# EAGLE library part CON-COMPACT-FLASH (library zz-m-pad-2.1)
Various Compact Flash Card Connectors from AVX and Hirose
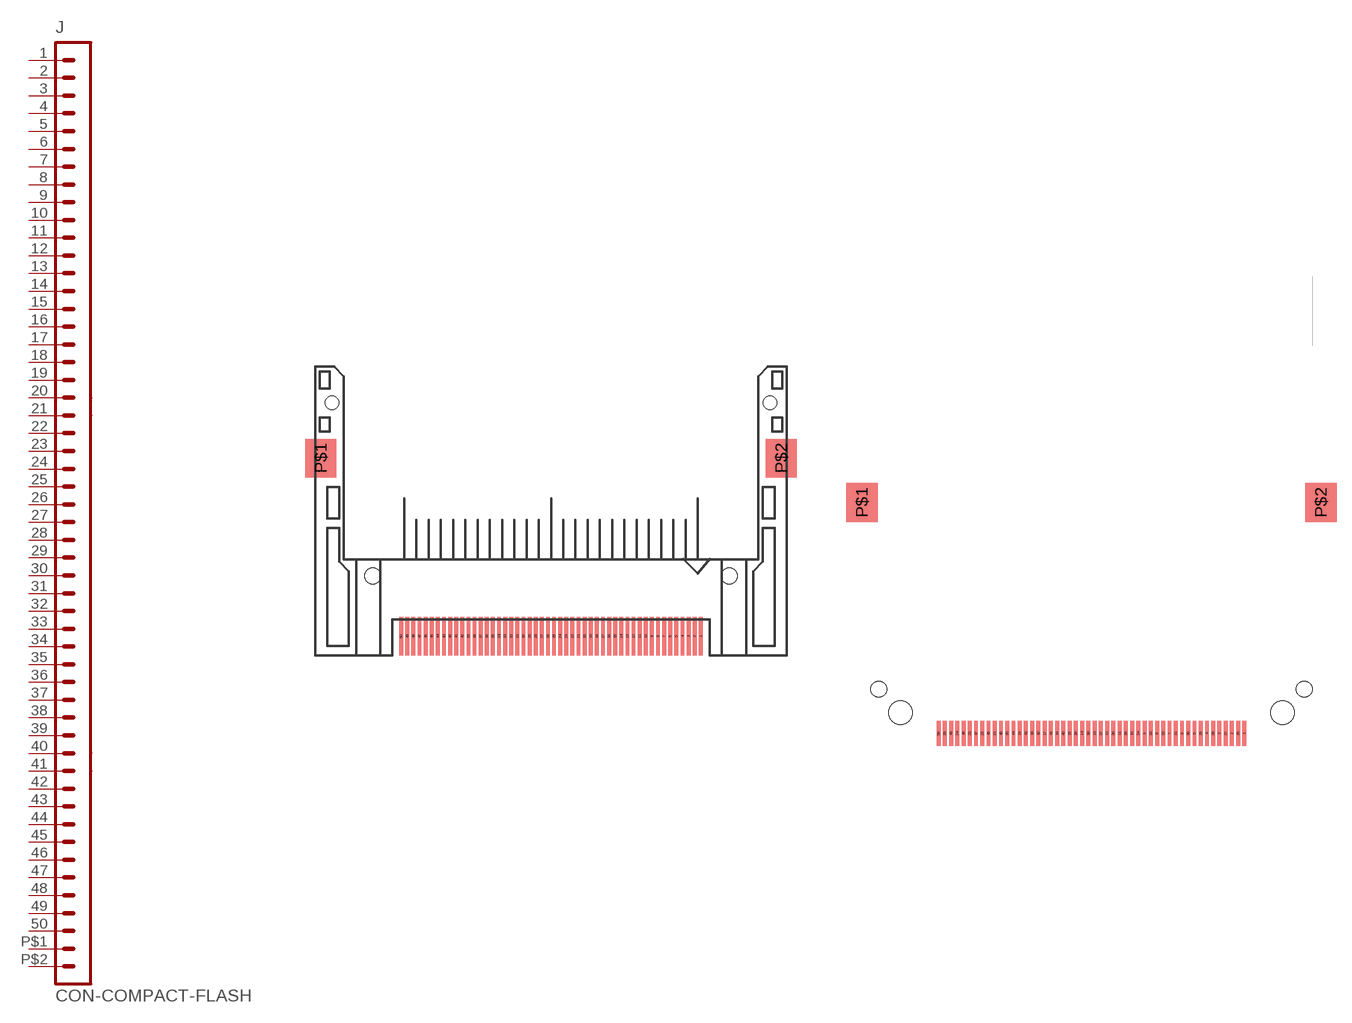
[diagram p115: symbol with the pads of MI20-50PD-SF-1; footprints MI20-50PD-SF-1, MI20-50PD-SF-EJL]

Designator prefix J

## CON-COMPACT-FLASH-1  [MI20-50PD-SF-1]
1  1  pas
2  2  pas
3  3  pas
4  4  pas
5  5  pas
6  6  pas
7  7  pas
8  8  pas
9  9  pas
10  10  pas
11  11  pas
12  12  pas
13  13  pas
14  14  pas
15  15  pas
16  16  pas
17  17  pas
18  18  pas
19  19  pas
20  20  pas
21  21  pas
22  22  pas
23  23  pas
24  24  pas
25  25  pas
26  26  pas
27  27  pas
28  28  pas
29  29  pas
30  30  pas
31  31  pas
32  32  pas
33  33  pas
34  34  pas
35  35  pas
36  36  pas
37  37  pas
38  38  pas
39  39  pas
40  40  pas
41  41  pas
42  42  pas
43  43  pas
44  44  pas
45  45  pas
46  46  pas
47  47  pas
48  48  pas
49  49  pas
50  50  pas
P$1  51  pas
P$2  52  pas

## CON-COMPACT-FLASH-2  [MI20-50PD-SF-EJL]
Pads as for MI20-50PD-SF-1

## CON-COMPACT-FLASH-3  [MI20-50PD-SF-EJR]
Pads as for MI20-50PD-SF-1

## Footprint MI20-50PD-SF-1 (pad centres in mm)
Hirose's MI20-50PD-SF Compact Flash Card Connectors Features: Compact design occupies minimum space Connectors are designed with small width and depth for miniaturization and the foot print on the board has been made smaller. (See (a) to the right) Supplied with ground terminals The MI21 Series are furnished with ground terminals. Card ejection mechanism Two point ejection mechanism to assure even card ejection. Designed and packaged for board placement with automatic equipment Headers are designed with a pick up area to accommodate the pick-and -place nozzles of automatic mounting machines. (Patents pending) Receptacles are designed to be mounted on top the board, and automatic mounting is possibble on the specified board. Card ejection mechanism Available in several termination and mouting styles, with and without ejection mechanism, with and without standoffs. Rich variations A rich assortment of variations allows selection of a type to suit the specific card and the equipment to which it will be installed. (1)Suitable cards: Type I , type I/II . (2)Eject button: None, right , left (3)Standoff: 0 mm, 2.2 mm (4)Board mounting type: Standard , reverse Please send any comments to: messi@users.sourceforge.net
smd 0.4 x 4: 1 15.557,-18.495; 2 14.922,-18.495; 3 14.287,-18.495; 4 13.652,-18.495; 5 13.018,-18.495; 6 12.383,-18.495; 7 11.748,-18.495; 8 11.113,-18.495; 9 10.477,-18.495; 10 9.842,-18.495; 11 9.207,-18.495; 12 8.572,-18.495; 13 7.938,-18.495; 14 7.303,-18.495; 15 6.668,-18.495; 16 6.032,-18.495; 17 5.397,-18.495; 18 4.763,-18.495; 19 4.128,-18.495; 20 3.493,-18.495; 21 2.857,-18.495; 22 2.223,-18.495; 23 1.587,-18.495; 24 0.953,-18.495; 25 0.318,-18.495; 26 -0.318,-18.495; 27 -0.953,-18.495; 28 -1.587,-18.495; 29 -2.223,-18.495; 30 -2.857,-18.495; 31 -3.493,-18.495; 32 -4.128,-18.495; 33 -4.763,-18.495; 34 -5.397,-18.495; 35 -6.032,-18.495; 36 -6.668,-18.495; 37 -7.303,-18.495; 38 -7.938,-18.495; 39 -8.572,-18.495; 40 -9.207,-18.495; 41 -9.842,-18.495; 42 -10.477,-18.495; 43 -11.113,-18.495; 44 -11.748,-18.495; 45 -12.383,-18.495; 46 -13.018,-18.495; 47 -13.652,-18.495; 48 -14.287,-18.495; 49 -14.922,-18.495; 50 -15.557,-18.495
smd 3.2 x 4: P$1 -23.9,0; P$2 23.9,0
hole 1.676 at 18.5,-12.25
hole 1.676 at -18.5,-12.25
hole 1.422 at -22.75,5.75
hole 1.422 at 22.75,5.75

## Footprint MI20-50PD-SF-EJL (pad centres in mm)
Hirose's MI20-50PD-SF-EJL Compact Flash Card Connectors Features: Compact design occupies minimum space Connectors are designed with small width and depth for miniaturization and the foot print on the board has been made smaller. (See (a) to the right) Supplied with ground terminals The MI21 Series are furnished with ground terminals. Card ejection mechanism Two point ejection mechanism to assure even card ejection. Designed and packaged for board placement with automatic equipment Headers are designed with a pick up area to accommodate the pick-and -place nozzles of automatic mounting machines. (Patents pending) Receptacles are designed to be mounted on top the board, and automatic mounting is possibble on the specified board. Card ejection mechanism Available in several termination and mouting styles, with and without ejection mechanism, with and without standoffs. Rich variations A rich assortment of variations allows selection of a type to suit the specific card and the equipment to which it will be installed. (1)Suitable cards: Type I , type I/II . (2)Eject button: None, right , left (3)Standoff: 0 mm, 2.2 mm (4)Board mounting type: Standard , reverse Please send any comments to: messi@users.sourceforge.net
smd 0.4 x 2.5: 1 15.557,-23.495; 2 14.287,-23.495; 3 13.018,-23.495; 4 11.748,-23.495; 5 10.477,-23.495; 6 9.207,-23.495; 7 7.938,-23.495; 8 6.668,-23.495; 9 5.397,-23.495; 10 4.128,-23.495; 11 2.857,-23.495; 12 1.587,-23.495; 13 0.318,-23.495; 14 -0.953,-23.495; 15 -2.223,-23.495; 16 -3.493,-23.495; 17 -4.763,-23.495; 18 -6.032,-23.495; 19 -7.303,-23.495; 20 -8.572,-23.495; 21 -9.842,-23.495; 22 -11.113,-23.495; 23 -12.383,-23.495; 24 -13.652,-23.495; 25 -14.922,-23.495; 26 14.922,-23.495; 27 13.652,-23.495; 28 12.383,-23.495; 29 11.113,-23.495; 30 9.842,-23.495; 31 8.572,-23.495; 32 7.303,-23.495; 33 6.032,-23.495; 34 4.763,-23.495; 35 3.493,-23.495; 36 2.223,-23.495; 37 0.953,-23.495; 38 -0.318,-23.495; 39 -1.587,-23.495; 40 -2.857,-23.495; 41 -4.128,-23.495; 42 -5.397,-23.495; 43 -6.668,-23.495; 44 -7.938,-23.495; 45 -9.207,-23.495; 46 -10.477,-23.495; 47 -11.748,-23.495; 48 -13.018,-23.495; 49 -14.287,-23.495; 50 -15.557,-23.495
smd 3.2 x 4: P$1 -23.35,0; P$2 23.35,0
hole 2.4 at -19.45,-21.4
hole 2.4 at 19.45,-21.4
hole 1.6 at -21.65,-19
hole 1.6 at 21.65,-19

## Footprint MI20-50PD-SF-EJR (pad centres in mm)
Hirose's MI20-50PD-SF-EJR Compact Flash Card Connectors Features: Compact design occupies minimum space Connectors are designed with small width and depth for miniaturization and the foot print on the board has been made smaller. (See (a) to the right) Supplied with ground terminals The MI21 Series are furnished with ground terminals. Card ejection mechanism Two point ejection mechanism to assure even card ejection. Designed and packaged for board placement with automatic equipment Headers are designed with a pick up area to accommodate the pick-and -place nozzles of automatic mounting machines. (Patents pending) Receptacles are designed to be mounted on top the board, and automatic mounting is possibble on the specified board. Card ejection mechanism Available in several termination and mouting styles, with and without ejection mechanism, with and without standoffs. Rich variations A rich assortment of variations allows selection of a type to suit the specific card and the equipment to which it will be installed. (1)Suitable cards: Type I , type I/II . (2)Eject button: None, right , left (3)Standoff: 0 mm, 2.2 mm (4)Board mounting type: Standard , reverse Please send any comments to: messi@users.sourceforge.net
smd 0.4 x 2.5: 1 15.557,-23.495; 2 14.287,-23.495; 3 13.018,-23.495; 4 11.748,-23.495; 5 10.477,-23.495; 6 9.207,-23.495; 7 7.938,-23.495; 8 6.668,-23.495; 9 5.397,-23.495; 10 4.128,-23.495; 11 2.857,-23.495; 12 1.587,-23.495; 13 0.318,-23.495; 14 -0.953,-23.495; 15 -2.223,-23.495; 16 -3.493,-23.495; 17 -4.763,-23.495; 18 -6.032,-23.495; 19 -7.303,-23.495; 20 -8.572,-23.495; 21 -9.842,-23.495; 22 -11.113,-23.495; 23 -12.383,-23.495; 24 -13.652,-23.495; 25 -14.922,-23.495; 26 14.922,-23.495; 27 13.652,-23.495; 28 12.383,-23.495; 29 11.113,-23.495; 30 9.842,-23.495; 31 8.572,-23.495; 32 7.303,-23.495; 33 6.032,-23.495; 34 4.763,-23.495; 35 3.493,-23.495; 36 2.223,-23.495; 37 0.953,-23.495; 38 -0.318,-23.495; 39 -1.587,-23.495; 40 -2.857,-23.495; 41 -4.128,-23.495; 42 -5.397,-23.495; 43 -6.668,-23.495; 44 -7.938,-23.495; 45 -9.207,-23.495; 46 -10.477,-23.495; 47 -11.748,-23.495; 48 -13.018,-23.495; 49 -14.287,-23.495; 50 -15.557,-23.495
smd 3.2 x 4: P$1 -23.35,0; P$2 23.35,0
hole 2.4 at -19.45,-21.4
hole 2.4 at 19.45,-21.4
hole 1.6 at -21.65,-19
hole 1.6 at 21.65,-19